# Altium footprint library AVX TAJR106K006RNJ.PcbLib: 1 footprints
Each footprint in its own frame and in the unit in brackets; x right, y up, seen from the top. Pads: shape width x height; smd on the part's side, far side on the other; paste and mask are expansions set on the pad; w line width, h text height; cw(c..) or ccw(c..) is an arc to the next point about the centre after c.
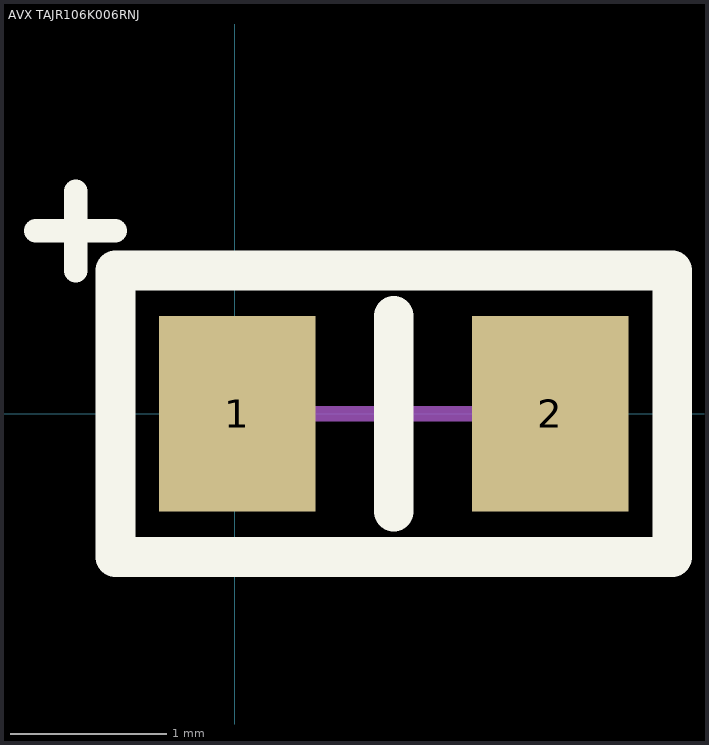
[diagram p0: the footprint, top view; thin cyan lines are the x and y axes]

## AVX TAJR106K006RNJ [mm]
height 0.2
pads (2):
  rect 1x1.25 smd: 1(0.016,0) 2(2.016,0)
Top Overlay:
  lines w0.15: -1.27,1.168 -0.762,1.168 ; -1.016,0.914 -1.016,1.422
  lines w0.254: 1.016,0.625 1.016,-0.625 ; 1.016,-0.625 1.016,-0.625 ; -0.762,-0.914 2.794,-0.914 2.794,0.914 -0.762,0.914 -0.762,-0.914
Mechanical 15:
  lines w0.1: 0.516,0 1.516,0 ; 1.016,-0.5 1.016,0.5
3D body "2012-12 tantalum cap.x_t": height 1.3, standoff 0, extent -0.009,-0.625 2.041,0.675
3D body: height 1.1, standoff 0, extent 0,0 0,0